# Altium footprint library Resistor.PcbLib: 34 footprints (part 3 of 3)
Each footprint in its own frame and in the unit in brackets; x right, y up, seen from the top. Pads: shape width x height; smd on the part's side, far side on the other; paste and mask are expansions set on the pad; w line width, h text height; cw(c..) or ccw(c..) is an arc to the next point about the centre after c.
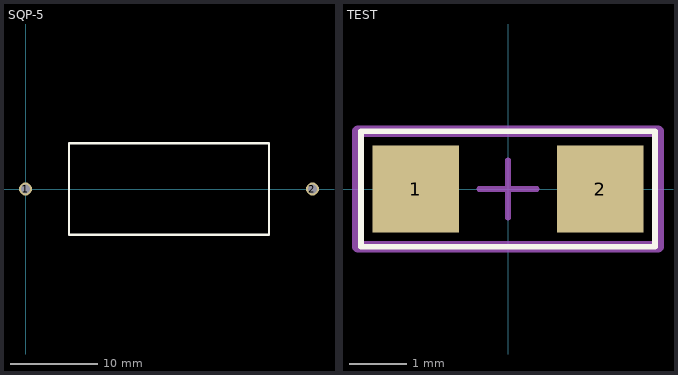
[diagram p2: the footprints below, top view; thin cyan lines are the x and y axes]

## SQP-5 [mm]
pads (2):
  round 1.5 hole 1: 1(0,0) 2(33,0)
Top Overlay:
  lines w0.254: 5,-5.25 5,5.25 28,5.25 28,-5.25 5,-5.25

## TEST [mm]
pads (2):
  rect 1.5x1.5 smd: 1(-1.6,0) 2(1.6,0)
Top Overlay:
  lines w0.1: -2.55,-1 -2.55,1 2.55,1 2.55,-1 -2.55,-1
Mechanical 15:
  lines w0.1: -0.5,0 0.5,0 ; 0,-0.5 0,0.5
Top TopAssy/BotomAssy (Mech24):
  lines w0.2: -2.6,-1 -2.6,1 2.6,1 2.6,-1 -2.6,-1
  text "'.Designator'" at -2.6,-2.214 h1.52
3D body: height 0.85, standoff 0, extent -1.675,-0.865 1.675,0.865